# Altium footprint library RESC320X250X47L90N.PcbLib: 1 footprints
Each footprint in its own frame and in the unit in brackets; x right, y up, seen from the top. Pads: shape width x height; smd on the part's side, far side on the other; paste and mask are expansions set on the pad; w line width, h text height; cw(c..) or ccw(c..) is an arc to the next point about the centre after c.
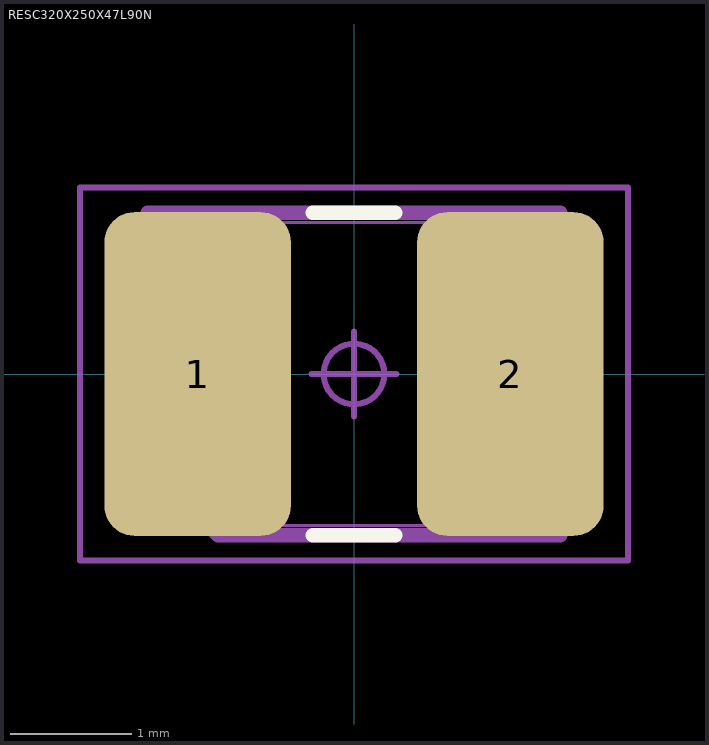
[diagram p0: the footprint, top view; thin cyan lines are the x and y axes]

## RESC320X250X47L90N [mm] "Resistor, Chip; 3.20 mm L X 2.50 mm W X 0.47 mm H body"
height 0.47
pads (2):
  rrect32% 1.54x2.67 smd: 1(-1.29,0) 2(1.29,0)
Top Overlay:
  lines w0.12: -0.34,-1.33 0.34,-1.33 ; -0.34,1.33 0.34,1.33
Mechanical 3:
  lines w0.12: -1.7,-0.75 -1.12,-1.33 1.7,-1.33 1.7,1.33 -1.7,1.33 -1.7,-0.75
Mechanical 5:
  lines w0.025: -1.6,-1.25 -0.7,-1.25 -0.7,1.25 -1.6,1.25 ; -1.6,-1.25 -1.6,1.25 ; -1.6,-1.25 -1.6,1.25 ; -1.6,-1.25 1.6,-1.25 ; -1.6,1.25 1.6,1.25 ; 1.6,-1.25 1.6,1.25 ; 1.6,-1.25 0.7,-1.25 0.7,1.25 1.6,1.25 ; 1.6,-1.25 1.6,1.25
Mechanical 7:
  circle w0.05: c0,0 r0.25
  lines w0.05: -0.35,0 0.35,0 ; 0,-0.35 0,0.35 ; -2.26,-1.54 -2.26,1.54 2.26,1.54 2.26,-1.54 -2.26,-1.54
Mechanical 9:
  text "'.Designator'" at -5.848,-0.159 h1.02
3D body "RESC320X250X47L90.STEP": height 0.47, standoff 0, extent -1.6,-1.25 1.6,1.25
3D body: height 1.04, standoff 0, extent -2.26,-1.54 2.26,1.54